# Altium footprint library AMPHENOL THD.PcbLib: 20 footprints (part 1 of 2)
Each footprint in its own frame and in the unit in brackets; x right, y up, seen from the top. Pads: shape width x height; smd on the part's side, far side on the other; paste and mask are expansions set on the pad; w line width, h text height; cw(c..) or ccw(c..) is an arc to the next point about the centre after c.
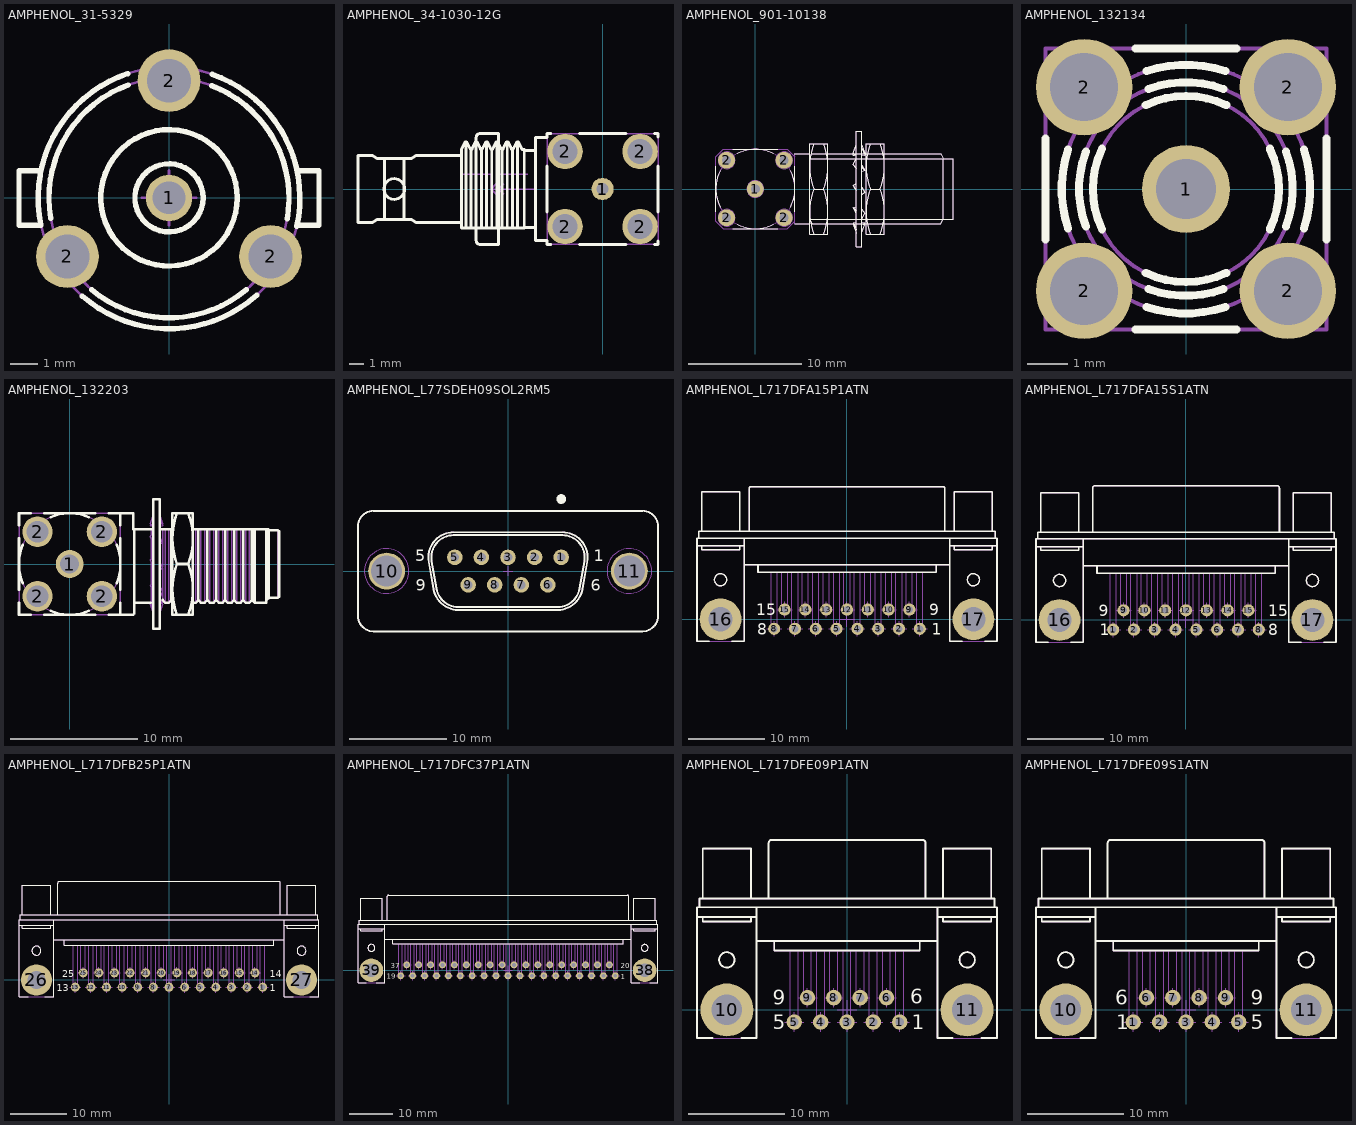
[diagram p0: the footprints below, top view; thin cyan lines are the x and y axes]

## AMPHENOL_31-5329 [mm] "50 Ohm BNC PCB Receptacle (Jack), Post Terminal, 3 Legs"
height 17.6
pads (4):
  round 1.7 hole 1.2: 1(0,0)
  round 2.3 hole 1.6: 2(-3.724,-2.15) 2(0,4.3) 2(3.724,-2.15)
Top Overlay:
  circle w0.2: c0,0 r1.25
  circle w0.2: c0,0 r2.5
  lines w0.2: -4.695,1 -5.5,1 -5.5,-1 -4.695,-1 cw(c0,0) -1.518,4.554 ; -4.335,-0.752 cw(c0,0) -1.496,4.138 ; -3.175,-3.6 ccw(c0,0) 3.214,-3.565 ; -2.839,-3.362 ccw(c0,0) 2.824,-3.374 ; 1.569,4.111 cw(c0,0) 4.332,-0.772 ; 1.578,4.533 cw(c0,0) 4.685,-1.047 ; 4.695,-1 5.5,-1 5.5,1 4.695,1
Mechanical 8:
  lines w0.1: -4.59,-2.65 -3.724,-2.15 ; -4.224,-1.284 -3.724,-2.15 ; -3.224,-3.016 -3.724,-2.15 ; -2.858,-1.65 -3.724,-2.15 ; -1,0 0,0 ; -1,4.3 0,4.3 ; 0,-1 0,0 ; 0,1 0,0 ; 0,3.3 0,4.3 ; 0,5.3 0,4.3 ; 1,0 0,0 ; 1,4.3 0,4.3 ; 2.858,-1.65 3.724,-2.15 ; 3.224,-3.016 3.724,-2.15 ; 4.224,-1.284 3.724,-2.15 ; 4.59,-2.65 3.724,-2.15
Mechanical 14:
  circle w0.1: c0,0 r2.5
  circle w0.1: c0,0 r4.4
  circle w0.1: c0,0 r4.8
  lines w0.1: -4.695,-1 -5.5,-1 -5.5,1 -4.695,1 ; 4.695,-1 5.5,-1 5.5,1 4.695,1
3D body "AMPHENOL_31-5329.stp": height 17, standoff -3.2, extent -5.5,-4.779 5.5,4.8

## AMPHENOL_34-1030-12G [mm] "75 Ohm HD-BNC Through Hole Right Angle PCB Jack"
height 8.5
pads (5):
  round 1.5 hole 0.8: 1(0,0)
  round 2.4 hole 1.7: 2(-2.54,-2.54) 2(-2.54,2.54) 2(2.54,-2.54) 2(2.54,2.54)
Top Overlay:
  circle w0.2: c-14.098,0 r0.7
  lines w0.2: -14.764,-2.055 -14.764,2.055 ; -13.431,-2.055 -13.431,2.055 ; -9.55,-2.275 -12.6,-2.275 -12.961,-2.055 -15.239,-2.055 -15.6,-2.275 -16.55,-2.275 -16.55,2.275 -15.6,2.275 -15.239,2.055 -12.961,2.055 -12.6,2.275 -9.55,2.275 ; -9.25,-2.64 -9.25,3.18 ; -8.9,-2.64 -8.9,2.68 ; -8.55,-2.64 -8.55,3.18 ; -8.2,-2.64 -8.2,2.68 ; -7.85,-2.64 -7.85,3.18 ; -7.5,-2.64 -7.5,2.68 ; -7.15,-2.64 -7.15,3.18 ; -6.8,-2.64 -6.8,2.68 ; -6.45,-2.64 -6.45,3.18 ; -6.1,-2.64 -6.1,2.68 ; -5.75,-2.64 -5.75,3.18 ; -5.3,-2.6 -4.55,-2.6 ; -5.3,2.6 -4.55,2.6 ; -3.75,-3.509 -3.75,-3.75 -3.509,-3.75 ; -3.75,-3.5 -4.55,-3.5 -4.55,3.5 -3.75,3.5 ; -3.75,-1.571 -3.75,1.571 ; -3.75,3.509 -3.75,3.75 -3.509,3.75 ; -1.571,-3.75 1.571,-3.75 ; -1.571,3.75 1.571,3.75 ; 3.509,-3.75 3.75,-3.75 3.75,-3.509 ; 3.509,3.75 3.75,3.75 3.75,3.509 ; 3.75,-1.571 3.75,1.571 ; -9.55,-2.64 -9.55,2.68 -9.3,3.18 -9.2,3.18 -8.95,2.68 -8.85,2.68 -8.6,3.18 -8.5,3.18 -8.25,2.68 -8.15,2.68 -7.9,3.18 -7.8,3.18 -7.55,2.68 -7.45,2.68 -7.2,3.18 -7.1,3.18 -6.85,2.68 -6.75,2.68 -6.5,3.18 -6.4,3.18 -6.15,2.68 -6.05,2.68 -5.8,3.18 -5.7,3.18 -5.45,2.68 -5.3,2.68 -5.3,-2.64 -9.55,-2.64 ; -8.55,-3.5 ccw(c-8.3,-3.5) -8.3,-3.75 -7.05,-3.75 -7.05,3.75 -8.3,3.75 ccw(c-8.3,3.5) -8.55,3.5 -8.55,-3.5
Mechanical 8:
  lines w0.1: -9.55,1 -7.55,1 -7.55,0 ; -7.196,-0.354 -7.55,0 ; -7.196,0.354 -7.55,0 ; -6.696,-0.354 -7.05,0 ; -6.696,0.354 -7.05,0 ; -5.05,1 -7.05,1 -7.05,0 ; -4.55,-0.5 -4.55,0 ; -4.55,0.5 -4.55,0 ; -3.04,-2.54 -2.54,-2.54 ; -3.04,2.54 -2.54,2.54 ; -2.54,-3.04 -2.54,-2.54 ; -2.54,-2.04 -2.54,-2.54 ; -2.54,2.04 -2.54,2.54 ; -2.54,3.04 -2.54,2.54 ; -2.04,-2.54 -2.54,-2.54 ; -2.04,2.54 -2.54,2.54 ; -0.5,0 0,0 ; 0,-0.5 0,0 ; 0,0.5 0,0 ; 0.5,0 0,0 ; 2.04,-2.54 2.54,-2.54 ; 2.04,2.54 2.54,2.54 ; 2.54,-3.04 2.54,-2.54 ; 2.54,-2.04 2.54,-2.54 ; 2.54,2.04 2.54,2.54 ; 2.54,3.04 2.54,2.54 ; 3.04,-2.54 2.54,-2.54 ; 3.04,2.54 2.54,2.54 ; -7.55,0 -7.05,0 ; -7.05,0 -4.55,0
  text "3.0" at -9.599,1.2 h1.2
  text "2.5" at -7.099,1.2 h1.2
Mechanical 14:
  circle w0.1: c-14.098,0 r0.7
  lines w0.1: -14.764,-2.055 -14.764,2.055 ; -13.431,-2.055 -13.431,2.055 ; -9.55,-2.275 -12.6,-2.275 -12.961,-2.055 -15.239,-2.055 -15.6,-2.275 -16.55,-2.275 -16.55,2.275 -15.6,2.275 -15.239,2.055 -12.961,2.055 -12.6,2.275 -9.55,2.275 ; -9.25,-2.64 -9.25,3.18 ; -8.9,-2.64 -8.9,2.68 ; -8.55,-2.64 -8.55,3.18 ; -8.2,-2.64 -8.2,2.68 ; -7.85,-2.64 -7.85,3.18 ; -7.5,-2.64 -7.5,2.68 ; -7.15,-2.64 -7.15,3.18 ; -6.8,-2.64 -6.8,2.68 ; -6.45,-2.64 -6.45,3.18 ; -6.1,-2.64 -6.1,2.68 ; -5.75,-2.64 -5.75,3.18 ; -5.3,-2.6 -4.55,-2.6 ; -5.3,2.6 -4.55,2.6 ; -3.75,-3.5 -4.55,-3.5 -4.55,3.5 -3.75,3.5 ; -9.55,-2.64 -9.55,2.68 -9.3,3.18 -9.2,3.18 -8.95,2.68 -8.85,2.68 -8.6,3.18 -8.5,3.18 -8.25,2.68 -8.15,2.68 -7.9,3.18 -7.8,3.18 -7.55,2.68 -7.45,2.68 -7.2,3.18 -7.1,3.18 -6.85,2.68 -6.75,2.68 -6.5,3.18 -6.4,3.18 -6.15,2.68 -6.05,2.68 -5.8,3.18 -5.7,3.18 -5.45,2.68 -5.3,2.68 -5.3,-2.64 -9.55,-2.64 ; -8.55,-3.5 ccw(c-8.3,-3.5) -8.3,-3.75 -7.05,-3.75 -7.05,3.75 -8.3,3.75 ccw(c-8.3,3.5) -8.55,3.5 -8.55,-3.5 ; -3.75,-3.75 -3.75,3.75 3.75,3.75 3.75,-3.75 -3.75,-3.75
3D body "AMPHENOL_34-1030-12G_Part1.stp": height 8, standoff -2.4, extent -16.55,-3.75 3.75,3.75
3D body "AMPHENOL_34-1030-12G_Part2.stp": height 8, standoff 0.5, extent -8.55,-3.75 -7.05,3.75

## AMPHENOL_901-10138 [mm] "50 Ohm Through Hole SMA Right Angle PCB Jack"
height 7
pads (5):
  round 1.5 hole 0.8: 1(0,0) 2(-2.54,-2.54) 2(-2.54,2.54) 2(2.54,-2.54) 2(2.54,2.54)
Top Overlay:
  lines w0.1: -3.5,-2.003 -3.5,2.003 ; -3.114,1.602 ccw(c0,0.005) -3.111,-1.6 ; -2.003,-3.5 2.003,-3.5 ; -2.003,3.5 2.003,3.5 ; -1.603,3.116 cw(c0,0.005) 1.603,3.116 ; -1.598,-3.109 ccw(c0,0.005) 1.598,-3.109 ; 3.111,-1.6 ccw(c0,0.005) 3.114,1.602 ; 3.495,-3.086 3.495,-3.09 4.795,-3.09 4.795,3.1 3.495,3.1 3.495,3.086 ; 3.5,-2.003 3.5,2.003 ; 5.157,-4 cw(c10.577,-2) 5.157,0 ; 5.157,4 ccw(c10.577,2) 5.157,0 ; 6.043,-4 ccw(c0.623,-2) 6.043,0 ; 6.043,4 cw(c0.623,2) 6.043,0 ; 8.713,-3.148 8.652,-3.181 ; 8.713,3.148 8.652,3.001 ; 8.733,-3.195 8.652,-3.181 ; 8.82,3.091 8.652,3.001 ; 8.9,-3.897 8.652,-3.181 ; 8.9,-3.595 8.652,-3.001 8.9,-2.957 ; 8.9,-2.206 ccw(c7.898,-2.351) 8.652,-1.676 ; 8.9,-1.92 8.652,-1.676 ; 8.9,-1.56 8.652,-1.676 ; 8.9,-0.139 8.652,0.29 8.9,0.488 ; 8.9,1.798 8.652,2.145 8.9,2.71 ; 8.9,2.957 8.652,3.001 ; 8.9,3.048 8.652,3.181 8.9,3.897 ; 9.4,-3.881 9.648,-3.181 9.4,-3.048 ; 9.4,-2.957 9.648,-3.001 ; 9.4,-2.701 9.648,-2.145 9.4,-1.798 ; 9.4,-0.49 9.648,-0.29 9.4,0.139 ; 9.4,1.56 9.648,1.676 ; 9.4,1.909 9.648,1.676 ; 9.4,2.107 9.648,1.676 ; 9.4,2.957 9.648,3.001 9.4,3.579 ; 9.4,3.881 9.648,3.181 ; 9.48,-3.091 9.648,-3.001 ; 9.565,3.195 9.648,3.181 ; 9.585,-3.147 9.648,-3.001 ; 9.585,3.147 9.648,3.181 ; 10.157,-4 cw(c15.577,-2) 10.157,0 ; 10.157,4 ccw(c15.577,2) 10.157,0 ; 11.043,-4 ccw(c5.623,-2) 11.043,0 ; 11.043,4 cw(c5.623,2) 11.043,0 ; 5.157,0 6.043,0 ; 10.157,0 11.043,0 ; 16.592,-2.66 16.392,-3.09 4.995,-3.09 4.795,-2.66 16.592,-2.66 ; 16.592,-2.66 17.495,-2.66 17.495,2.67 16.592,2.67 ; 16.592,-2.66 16.592,2.67 ; 16.592,2.67 16.392,3.1 4.995,3.1 4.795,2.67 16.592,2.67 ; 4.8,-4 6.4,-4 6.4,4 4.8,4 4.8,-4 ; 8.9,-5.1 9.4,-5.1 9.4,5.1 8.9,5.1 8.9,-5.1 ; 9.8,-4 11.4,-4 11.4,4 9.8,4 9.8,-4
Mechanical 8:
  circle w0.1: c2.54,-2.54 r0.75
  circle w0.1: c2.54,-2.54 r0.4
  circle w0.1: c-2.54,-2.54 r0.75
  circle w0.1: c-2.54,-2.54 r0.4
  circle w0.1: c0,0 r0.75
  circle w0.1: c0,0 r0.4
  circle w0.1: c2.54,2.54 r0.75
  circle w0.1: c2.54,2.54 r0.4
  circle w0.1: c-2.54,2.54 r0.75
  circle w0.1: c-2.54,2.54 r0.4
  lines w0.1: -3.04,-2.54 -2.54,-2.54 ; -3.04,2.54 -2.54,2.54 ; -2.54,-3.04 -2.54,-2.54 ; -2.54,-2.04 -2.54,-2.54 ; -2.54,2.04 -2.54,2.54 ; -2.54,3.04 -2.54,2.54 ; -2.04,-2.54 -2.54,-2.54 ; -2.04,2.54 -2.54,2.54 ; -0.5,0 0,0 ; 0,-0.5 0,0 ; 0,0.5 0,0 ; 0.5,0 0,0 ; 2.04,-2.54 2.54,-2.54 ; 2.04,2.54 2.54,2.54 ; 2.54,-3.04 2.54,-2.54 ; 2.54,-2.04 2.54,-2.54 ; 2.54,2.04 2.54,2.54 ; 2.54,3.04 2.54,2.54 ; 3.04,-2.54 2.54,-2.54 ; 3.04,2.54 2.54,2.54
Mechanical 14:
  circle w0.1: c0,0.005 r3.5
  lines w0.1: 3.495,-2.835 3.495,-3.09 4.795,-3.09 4.795,3.1 3.495,3.1 3.495,2.835 ; 5.157,-4 cw(c10.577,-2) 5.157,0 ; 5.157,4 ccw(c10.577,2) 5.157,0 ; 6.043,-4 ccw(c0.623,-2) 6.043,0 ; 6.043,4 cw(c0.623,2) 6.043,0 ; 8.713,-3.148 8.652,-3.181 ; 8.713,3.148 8.652,3.001 ; 8.733,-3.195 8.652,-3.181 ; 8.82,3.091 8.652,3.001 ; 8.9,-3.897 8.652,-3.181 ; 8.9,-3.595 8.652,-3.001 8.9,-2.957 ; 8.9,-2.206 ccw(c7.898,-2.351) 8.652,-1.676 ; 8.9,-1.92 8.652,-1.676 ; 8.9,-1.56 8.652,-1.676 ; 8.9,-0.139 8.652,0.29 8.9,0.488 ; 8.9,1.798 8.652,2.145 8.9,2.71 ; 8.9,2.957 8.652,3.001 ; 8.9,3.048 8.652,3.181 8.9,3.897 ; 9.4,-3.881 9.648,-3.181 9.4,-3.048 ; 9.4,-2.957 9.648,-3.001 ; 9.4,-2.701 9.648,-2.145 9.4,-1.798 ; 9.4,-0.49 9.648,-0.29 9.4,0.139 ; 9.4,1.56 9.648,1.676 ; 9.4,1.909 9.648,1.676 ; 9.4,2.107 9.648,1.676 ; 9.4,2.957 9.648,3.001 9.4,3.579 ; 9.4,3.881 9.648,3.181 ; 9.48,-3.091 9.648,-3.001 ; 9.565,3.195 9.648,3.181 ; 9.585,-3.147 9.648,-3.001 ; 9.585,3.147 9.648,3.181 ; 10.157,-4 cw(c15.577,-2) 10.157,0 ; 10.157,4 ccw(c15.577,2) 10.157,0 ; 11.043,-4 ccw(c5.623,-2) 11.043,0 ; 11.043,4 cw(c5.623,2) 11.043,0 ; 5.157,0 6.043,0 ; 10.157,0 11.043,0 ; 16.592,-2.66 16.392,-3.09 4.995,-3.09 4.795,-2.66 16.592,-2.66 ; 16.592,-2.66 17.495,-2.66 17.495,2.67 16.592,2.67 ; 16.592,-2.66 16.592,2.67 ; 16.592,2.67 16.392,3.1 4.995,3.1 4.795,2.67 16.592,2.67 ; -3.5,-2.828 -3.5,2.828 -2.828,3.5 2.828,3.5 3.5,2.828 3.5,-2.828 2.828,-3.5 -2.828,-3.5 -3.5,-2.828 ; 4.8,-4 6.4,-4 6.4,4 4.8,4 4.8,-4 ; 8.9,-5.1 9.4,-5.1 9.4,5.1 8.9,5.1 8.9,-5.1 ; 9.8,-4 11.4,-4 11.4,4 9.8,4 9.8,-4
3D body "AMPHENOL_901-10138_2.stp": height 8.12, standoff -1.12, extent 4.795,-4 6.395,4
3D body "AMPHENOL_901-10138.stp": height 7, standoff -3, extent -3.5,-3.5 17.495,3.5
3D body "AMPHENOL_901-10138_1.stp": height 8.6, standoff -1.6, extent 8.652,-5.1 9.648,5.1
3D body "AMPHENOL_901-10138_2.stp": height 8.12, standoff -1.12, extent 9.8,-4 11.4,4

## AMPHENOL_132134 [mm] "50 Ohm Through Hole SMA Straight PCB Jack"
height 9.53
pads (5):
  round 2.2 hole 1.5: 1(0,0)
  round 2.4 hole 1.7: 2(-2.54,-2.54) 2(-2.54,2.54) 2(2.54,-2.54) 2(2.54,2.54)
Top Overlay:
  lines w0.2: -3.5,-1.26 -3.5,1.26 ; -2.939,-0.991 cw(c-0.001,-0.001) -2.938,0.99 ; -2.495,-0.941 cw(c-0.003,0) -2.495,0.941 ; -2.094,-1.003 cw(c-0.002,0) -2.094,1.003 ; -1.26,-3.5 1.26,-3.5 ; -1.26,3.5 1.26,3.5 ; -1.004,-2.093 ccw(c-0.002,0) 1.004,-2.09 ; -1.004,2.093 cw(c-0.002,0) 1.004,2.09 ; -0.991,-2.94 ccw(c-0.001,-0.001) 0.991,-2.939 ; -0.99,2.937 cw(c-0.001,-0.001) 0.99,2.937 ; -0.941,-2.494 ccw(c-0.003,0) 0.941,-2.492 ; -0.941,2.493 cw(c-0.003,0) 0.941,2.491 ; 2.089,-1.005 ccw(c-0.002,0) 2.089,1.005 ; 2.489,-0.941 ccw(c-0.003,0) 2.489,0.941 ; 2.938,-0.99 ccw(c-0.001,-0.001) 2.937,0.99 ; 3.5,-1.26 3.5,1.26
Mechanical 8:
  lines w0.1: -3.04,-2.54 -2.54,-2.54 ; -3.04,2.54 -2.54,2.54 ; -2.54,-3.04 -2.54,-2.54 ; -2.54,-2.04 -2.54,-2.54 ; -2.54,2.04 -2.54,2.54 ; -2.54,3.04 -2.54,2.54 ; -2.04,-2.54 -2.54,-2.54 ; -2.04,2.54 -2.54,2.54 ; -0.5,0 0,0 ; 0,-0.5 0,0 ; 0,0.5 0,0 ; 0.5,0 0,0 ; 2.04,-2.54 2.54,-2.54 ; 2.04,2.54 2.54,2.54 ; 2.54,-3.04 2.54,-2.54 ; 2.54,-2.04 2.54,-2.54 ; 2.54,2.04 2.54,2.54 ; 2.54,3.04 2.54,2.54 ; 3.04,-2.54 2.54,-2.54 ; 3.04,2.54 2.54,2.54
Mechanical 14:
  circle w0.1: c-0.003,0 r2.664
  circle w0.1: c0,0 r0.635
  circle w0.1: c0,-0.011 r0.465
  circle w0.1: c-0.002,0 r2.32
  circle w0.1: c-0.001,-0.001 r3.101
  lines w0.1: -3.5,-3.5 -3.5,3.5 3.5,3.5 3.5,-3.5 -3.5,-3.5
3D body "AMPHENOL_132134.stp": height 9.53, standoff -3.94, extent -3.5,-3.5 3.5,3.5

## AMPHENOL_132203 [mm] "50 Ohm Through Hole SMA Right Angle PCB Jack"
height 10.44
pads (5):
  round 2.2 hole 1.5: 1(0,0)
  round 2.4 hole 1.7: 2(-2.54,-2.54) 2(-2.54,2.54) 2(2.54,-2.54) 2(2.54,2.54)
Top Overlay:
  lines w0.2: -4,-3.06 -4,-4 -3.06,-4 ; -4,-2.02 -4,2.02 ; -4,3.06 -4,4 -3.06,4 ; -3.702,-1.514 cw(c0,0) -3.702,1.514 ; -2.02,-4 2.02,-4 ; -2.02,4 2.02,4 ; -1.514,-3.702 ccw(c0,0) 1.514,-3.702 ; -1.514,3.702 cw(c0,0) 1.514,3.702 ; 3.06,-4 5,-4 5.1,-3.9 5.1,2.75 ; 3.06,4 5,4 5,2.75 6.6,2.75 ; 3.702,-1.514 ccw(c0,0) 3.702,1.514 ; 4,-4 4,-3.06 ; 4,-2.02 4,2.02 ; 4,3.06 4,4 ; 5.1,-3.05 6.373,-3.05 ; 7.1,2.75 8.1,2.75 ; 7.316,-2.825 7.517,-3.05 7.821,-3.05 8.022,-2.825 ; 8.022,2.75 8.022,-2.825 ; 8.1,-2.912 8.022,-2.825 ; 8.457,-4 cw(c13.877,-2) 8.457,0 ; 8.457,4 ccw(c13.877,2) 8.457,0 ; 9.343,-4 ccw(c3.923,-2) 9.343,0 ; 9.343,4 cw(c3.923,2) 9.343,0 ; 9.7,-3.05 9.938,-3.05 10.139,-2.825 ; 9.7,2.75 15.621,2.75 15.7,2.675 15.7,-2.675 15.507,-2.858 ; 10.139,2.75 10.139,-2.825 ; 10.844,2.75 10.844,-2.825 ; 11.55,2.75 11.55,-2.825 ; 12.255,2.75 12.255,-2.825 ; 12.961,2.75 12.961,-2.825 ; 13.666,2.75 13.666,-2.825 ; 14.372,2.75 14.372,-2.825 ; 14.573,2.75 14.573,-3.05 ; 15.507,2.75 15.507,-3.05 14.573,-3.05 ; 15.7,-2.665 16.4,-2.665 16.5,-2.565 16.5,2.565 16.4,2.665 15.7,2.665 ; 8.457,0 9.343,0 ; 10.139,-2.825 10.339,-3.05 10.643,-3.05 10.844,-2.825 ; 10.844,-2.825 11.045,-3.05 11.349,-3.05 11.55,-2.825 ; 11.55,-2.825 11.751,-3.05 12.055,-3.05 12.255,-2.825 ; 12.255,-2.825 12.456,-3.05 12.76,-3.05 12.961,-2.825 ; 12.961,-2.825 13.162,-3.05 13.466,-3.05 13.666,-2.825 ; 13.666,-2.825 13.867,-3.05 14.171,-3.05 14.372,-2.825 ; 14.372,-2.825 14.573,-3.05 ; 6.6,-5.1 7.1,-5.1 7.1,5.1 6.6,5.1 6.6,-5.1 ; 8.1,-4 9.7,-4 9.7,4 8.1,4 8.1,-4
Mechanical 8:
  lines w0.05: -3.04,-2.54 -2.54,-2.54 ; -3.04,2.54 -2.54,2.54 ; -2.54,-3.04 -2.54,-2.54 ; -2.54,-2.04 -2.54,-2.54 ; -2.54,2.04 -2.54,2.54 ; -2.54,3.04 -2.54,2.54 ; -2.04,-2.54 -2.54,-2.54 ; -2.04,2.54 -2.54,2.54 ; -0.5,0 0,0 ; 0,-0.5 0,0 ; 0,0.5 0,0 ; 0.5,0 0,0 ; 2.04,-2.54 2.54,-2.54 ; 2.04,2.54 2.54,2.54 ; 2.54,-3.04 2.54,-2.54 ; 2.54,-2.04 2.54,-2.54 ; 2.54,2.04 2.54,2.54 ; 2.54,3.04 2.54,2.54 ; 3.04,-2.54 2.54,-2.54 ; 3.04,2.54 2.54,2.54
Mechanical 14:
  circle w0.1: c0,0 r4
  lines w0.1: 4,-4 4,4 ; 5.1,-3.05 6.373,-3.05 ; 5.1,2.75 5.1,-3.9 5,-4 -4,-4 -4,4 5,4 5,2.75 6.6,2.75 ; 6.41,-2.991 6.41,-1.747 ; 6.41,-1.649 6.41,0.189 ; 6.41,0.336 6.41,2.064 ; 6.41,2.277 6.41,2.75 ; 6.413,-3.148 6.352,-3.181 ; 6.413,3.148 6.352,3.001 ; 6.433,-3.195 6.352,-3.181 ; 6.473,-2.98 6.6,-2.837 ; 6.52,3.091 6.352,3.001 ; 6.6,-3.897 6.352,-3.181 ; 6.6,-3.595 6.352,-3.001 6.6,-2.957 ; 6.6,-2.206 ccw(c5.598,-2.351) 6.352,-1.676 ; 6.6,-1.92 6.352,-1.676 ; 6.6,-1.56 6.352,-1.676 ; 6.6,-0.139 6.352,0.29 6.6,0.488 ; 6.6,1.798 6.352,2.145 6.6,2.71 ; 6.6,2.957 6.352,3.001 ; 6.6,3.048 6.352,3.181 6.6,3.897 ; 7.1,-3.881 7.348,-3.181 7.1,-3.048 ; 7.1,-2.701 7.348,-2.145 7.1,-1.798 ; 7.1,-0.49 7.348,-0.29 7.1,0.139 ; 7.1,1.56 7.348,1.676 ; 7.1,1.909 7.348,1.676 ; 7.1,2.107 7.348,1.676 ; 7.1,2.75 8.1,2.75 ; 7.1,2.957 7.348,3.001 7.1,3.579 ; 7.1,3.881 7.348,3.181 ; 7.113,-3.055 7.316,-2.825 ; 7.18,-3.091 7.348,-3.001 ; 7.186,-2.972 7.348,-3.001 ; 7.265,3.195 7.348,3.181 ; 7.285,-3.147 7.348,-3.001 ; 7.285,3.147 7.348,3.181 ; 7.316,-2.215 7.316,-2.825 ; 7.316,-2.101 7.316,-0.315 ; 7.316,-0.236 7.316,1.661 ; 7.316,1.72 7.316,2.75 ; 7.517,2.75 7.517,-3.05 ; 7.821,2.75 7.821,-3.05 ; 8.022,2.75 8.022,-2.825 ; 8.1,-2.912 8.022,-2.825 ; 8.457,-4 cw(c13.877,-2) 8.457,0 ; 8.457,4 ccw(c13.877,2) 8.457,0 ; 9.343,-4 ccw(c3.923,-2) 9.343,0 ; 9.343,4 cw(c3.923,2) 9.343,0 ; 9.7,-3.05 9.938,-3.05 ; 9.7,2.75 15.621,2.75 15.7,2.675 15.7,-2.675 15.507,-2.858 ; 9.938,2.75 9.938,-3.05 ; 10.139,2.75 10.139,-2.825 ; 10.339,2.75 10.339,-3.05 ; 10.644,2.75 10.643,-3.05 ; 10.844,2.75 10.844,-2.825 ; 11.045,2.75 11.045,-3.05 ; 11.349,2.75 11.349,-3.05 ; 11.55,2.75 11.55,-2.825 ; 11.751,2.75 11.751,-3.05 ; 12.055,2.75 12.055,-3.05 ; 12.255,2.75 12.255,-2.825 ; 12.456,2.75 12.456,-3.05 ; 12.76,2.75 12.76,-3.05 ; 12.961,2.75 12.961,-2.825 ; 13.162,2.75 13.162,-3.05 ; 13.466,2.75 13.466,-3.05 ; 13.666,2.75 13.666,-2.825 ; 13.867,2.75 13.867,-3.05 ; 14.171,2.75 14.171,-3.05 ; 14.372,2.75 14.372,-2.825 ; 14.573,2.75 14.573,-3.05 ; 15.507,2.75 15.507,-3.05 14.573,-3.05 ; 15.7,-2.665 16.4,-2.665 ; 15.7,2.665 16.4,2.665 ; 7.316,-2.825 7.517,-3.05 ; 7.517,-3.05 7.821,-3.05 ; 7.821,-3.05 8.022,-2.825 ; 8.457,0 9.343,0 ; 9.938,-3.05 10.139,-2.825 ; 10.139,-2.825 10.339,-3.05 ; 10.339,-3.05 10.643,-3.05 ; 10.643,-3.05 10.844,-2.825 ; 10.844,-2.825 11.045,-3.05 ; 11.045,-3.05 11.349,-3.05 ; 11.349,-3.05 11.55,-2.825 ; 11.55,-2.825 11.751,-3.05 ; 11.751,-3.05 12.055,-3.05 ; 12.055,-3.05 12.255,-2.825 ; 12.255,-2.825 12.456,-3.05 ; 12.456,-3.05 12.76,-3.05 ; 12.76,-3.05 12.961,-2.825 ; 12.961,-2.825 13.162,-3.05 ; 13.162,-3.05 13.466,-3.05 ; 13.466,-3.05 13.666,-2.825 ; 13.666,-2.825 13.867,-3.05 ; 13.867,-3.05 14.171,-3.05 ; 14.171,-3.05 14.372,-2.825 ; 14.372,-2.825 14.573,-3.05 ; 16.4,-2.665 16.5,-2.565 16.5,2.565 16.4,2.665 ; 16.4,-2.665 16.4,2.665 ; 6.6,-5.1 7.1,-5.1 7.1,5.1 6.6,5.1 6.6,-5.1 ; 8.1,-4 9.7,-4 9.7,4 8.1,4 8.1,-4
3D body "AMPHENOL_132203.stp": height 10.44, standoff -3.94, extent -4,-4 16.5,4
3D body "AMPHENOL_132203_1.stp": height 11.45, standoff 1.25, extent 6.352,-5.1 7.348,5.1
3D body "AMPHENOL_132203_2.stp": height 10.97, standoff 1.73, extent 8.1,-4 9.7,4

## AMPHENOL_L77SDEH09SOL2RM5 [mm] "Straight D-SUB 9 Female Contacts for PCB with Rear Insert (UNC4-40) and RM5 Standoff Boardlock"
height 13
pads (11):
  round 1.6 hole 0.9: 1(5.48,1.42) 2(2.74,1.42) 3(0,1.42) 4(-2.74,1.42) 5(-5.48,1.42) 6(4.11,-1.42) 7(1.37,-1.42) 8(-1.37,-1.42) 9(-4.11,-1.42)
  round 3.8 hole 3.2: 10(-12.495,0) 11(12.495,0)
Top Overlay:
  circle w0.5: c5.48,7.42 r0.25
  lines w0.2: -15.445,-4.61 ccw(c-13.845,-4.61) -13.845,-6.21 13.845,-6.21 ccw(c13.845,-4.61) 15.445,-4.61 15.445,4.61 ccw(c13.845,4.61) 13.845,6.21 -13.845,6.21 ccw(c-13.845,4.61) -15.445,4.61 -15.445,-4.61 ; -8.161,0.949 cw(c-5.6,1.4) -5.6,4 5.6,4 cw(c5.6,1.4) 8.16,0.949 7.667,-1.851 cw(c5.106,-1.4) 5.106,-4 -5.106,-4 cw(c-5.106,-1.4) -7.667,-1.851 -8.161,0.949 ; -7.865,1.001 cw(c-5.6,1.4) -5.6,3.7 5.6,3.7 cw(c5.6,1.4) 7.865,1.001 7.371,-1.799 cw(c5.106,-1.4) 5.106,-3.7 -5.106,-3.7 cw(c-5.106,-1.4) -7.372,-1.799 -7.865,1.001
  text "9" at -9.5,-2.025 h1.2
  text "6" at 8.525,-2.05 h1.2
  text "5" at -9.525,1 h1.2
  text "1" at 8.85,1 h1.2
Mechanical 8:
  lines w0.1: -12.995,0 -12.495,0 ; -12.495,-0.5 -12.495,0 ; -12.495,0.5 -12.495,0 ; -11.995,0 -12.495,0 ; -5.98,1.42 -5.48,1.42 ; -5.48,0.92 -5.48,1.42 ; -5.48,1.92 -5.48,1.42 ; -4.98,1.42 -5.48,1.42 ; -4.61,-1.42 -4.11,-1.42 ; -4.11,-1.92 -4.11,-1.42 ; -4.11,-0.92 -4.11,-1.42 ; -3.61,-1.42 -4.11,-1.42 ; -3.24,1.42 -2.74,1.42 ; -2.74,0.92 -2.74,1.42 ; -2.74,1.92 -2.74,1.42 ; -2.24,1.42 -2.74,1.42 ; -1.87,-1.42 -1.37,-1.42 ; -1.37,-1.92 -1.37,-1.42 ; -1.37,-0.92 -1.37,-1.42 ; -0.87,-1.42 -1.37,-1.42 ; -0.5,0 0,0 ; -0.5,1.42 0,1.42 ; 0,-0.5 0,0 ; 0,0.5 0,0 ; 0,0.92 0,1.42 ; 0,1.92 0,1.42 ; 0.5,0 0,0 ; 0.5,1.42 0,1.42 ; 0.87,-1.42 1.37,-1.42 ; 1.37,-1.92 1.37,-1.42 ; 1.37,-0.92 1.37,-1.42 ; 1.87,-1.42 1.37,-1.42 ; 2.24,1.42 2.74,1.42 ; 2.74,0.92 2.74,1.42 ; 2.74,1.92 2.74,1.42 ; 3.24,1.42 2.74,1.42 ; 3.61,-1.42 4.11,-1.42 ; 4.11,-1.92 4.11,-1.42 ; 4.11,-0.92 4.11,-1.42 ; 4.61,-1.42 4.11,-1.42 ; 4.98,1.42 5.48,1.42 ; 5.48,0.92 5.48,1.42 ; 5.48,1.92 5.48,1.42 ; 5.98,1.42 5.48,1.42 ; 11.995,0 12.495,0 ; 12.495,-0.5 12.495,0 ; 12.495,0.5 12.495,0 ; 12.995,0 12.495,0
Mechanical 14:
  circle w0.1: c-5.48,1.42 r0.4
  circle w0.1: c-2.74,1.42 r0.4
  circle w0.1: c-4.11,-1.42 r0.4
  circle w0.1: c-1.37,-1.42 r0.4
  circle w0.1: c0,1.42 r0.4
  circle w0.1: c2.74,1.42 r0.4
  circle w0.1: c5.48,1.42 r0.4
  circle w0.1: c4.11,-1.42 r0.4
  circle w0.1: c1.37,-1.42 r0.4
  circle w0.1: c-12.495,0 r2.3
  circle w0.1: c-12.495,0 r1.5
  circle w0.1: c12.495,0 r2.3
  circle w0.1: c12.495,0 r1.5
  lines w0.1: -15.445,-4.61 ccw(c-13.845,-4.61) -13.845,-6.21 13.845,-6.21 ccw(c13.845,-4.61) 15.445,-4.61 15.445,4.61 ccw(c13.845,4.61) 13.845,6.21 -13.845,6.21 ccw(c-13.845,4.61) -15.445,4.61 -15.445,-4.61 ; -8.161,0.949 cw(c-5.6,1.4) -5.6,4 5.6,4 cw(c5.6,1.4) 8.16,0.949 7.667,-1.851 cw(c5.106,-1.4) 5.106,-4 -5.106,-4 cw(c-5.106,-1.4) -7.667,-1.851 -8.161,0.949 ; -7.865,1.001 cw(c-5.6,1.4) -5.6,3.7 5.6,3.7 cw(c5.6,1.4) 7.865,1.001 7.371,-1.799 cw(c5.106,-1.4) 5.106,-3.7 -5.106,-3.7 cw(c-5.106,-1.4) -7.372,-1.799 -7.865,1.001
  text "1" at 8.85,1 h1.2
  text "5" at -9.525,1 h1.2
  text "6" at 8.525,-2.05 h1.2
  text "9" at -9.5,-2.025 h1.2
3D body "AMPHENOL_L77SDEH09SOL2RM5.stp": height 13, standoff -4.2, extent -15.445,-6.21 15.445,6.21

## AMPHENOL_L717DFA15P1ATN [mm] "Right Angled D-Sub 15 Male Contacts with Metal Bracket and Front Female Screwlock (UNC4-40)"
height 13.4
pads (17):
  round 1.6 hole 0.9: 1(9.59,-1.27) 2(6.85,-1.27) 3(4.11,-1.27) 4(1.37,-1.27) 5(-1.37,-1.27) 6(-4.11,-1.27) 7(-6.85,-1.27) 8(-9.59,-1.27) 9(8.22,1.27) 10(5.48,1.27) 11(2.74,1.27) 12(0,1.27) 13(-2.74,1.27) 14(-5.48,1.27) 15(-8.22,1.27)
  round 5.5 hole 3.2: 16(-16.65,0) 17(16.65,0)
Top Overlay:
  circle w0.2: c16.65,5.2 r0.8
  circle w0.2: c-16.65,5.2 r0.8
  lines w0.2: -19.5,10.67 -19.5,11.57 19.5,11.57 19.5,10.67 ; -19.15,9.67 -19.15,9.17 -14.15,9.17 -14.15,9.67 ; -19.15,11.57 -19.15,16.77 -14.15,16.77 -14.15,11.57 ; -18.15,-2.93 -19.75,-2.93 -19.75,10.67 19.75,10.67 19.75,-2.93 18.15,-2.93 ; -15.15,-2.93 -13.55,-2.93 -13.55,10.67 ; -13.689,9.67 -19.75,9.67 -13.55,9.67 ; -13.55,7.17 13.55,7.17 ; -12.901,11.57 -12.901,17.17 cw(c-12.601,17.17) -12.601,17.47 12.602,17.47 cw(c12.602,17.17) 12.902,17.17 12.902,11.57 ; -11.72,7.17 -11.72,6.17 11.72,6.17 11.72,7.17 ; 13.55,9.67 19.75,9.67 ; 13.55,10.67 13.55,-2.93 15.15,-2.93 ; 14.15,9.67 14.15,9.17 19.15,9.17 19.15,9.67 ; 14.15,11.57 14.15,16.77 19.15,16.77 19.15,11.57
  text "9" at 10.841,0.508 h1.5
  text "1" at 11.176,-2.032 h1.5
  text "8" at -11.811,-2.032 h1.5
  text "15" at -11.938,0.508 h1.5
Mechanical 8:
  lines w0.1: -17.65,0 -16.65,0 ; -16.65,-1 -16.65,0 ; -16.65,1 -16.65,0 ; -15.65,0 -16.65,0 ; -10.59,-1.27 -9.59,-1.27 ; -9.59,-2.27 -9.59,-1.27 ; -9.59,-0.27 -9.59,-1.27 ; -9.22,1.27 -8.22,1.27 ; -8.59,-1.27 -9.59,-1.27 ; -8.22,0.27 -8.22,1.27 ; -8.22,2.27 -8.22,1.27 ; -7.85,-1.27 -6.85,-1.27 ; -7.22,1.27 -8.22,1.27 ; -6.85,-2.27 -6.85,-1.27 ; -6.85,-0.27 -6.85,-1.27 ; -6.48,1.27 -5.48,1.27 ; -5.85,-1.27 -6.85,-1.27 ; -5.48,0.27 -5.48,1.27 ; -5.48,2.27 -5.48,1.27 ; -5.11,-1.27 -4.11,-1.27 ; -4.48,1.27 -5.48,1.27 ; -4.11,-2.27 -4.11,-1.27 ; -4.11,-0.27 -4.11,-1.27 ; -3.74,1.27 -2.74,1.27 ; -3.11,-1.27 -4.11,-1.27 ; -2.74,0.27 -2.74,1.27 ; -2.74,2.27 -2.74,1.27 ; -2.37,-1.27 -1.37,-1.27 ; -1.74,1.27 -2.74,1.27 ; -1.37,-2.27 -1.37,-1.27 ; -1.37,-0.27 -1.37,-1.27 ; -1,0 0,0 ; -1,1.27 0,1.27 ; -0.37,-1.27 -1.37,-1.27 ; 0,-1 0,0 ; 0,0.27 0,1.27 ; 0,1 0,0 ; 0,2.27 0,1.27 ; 0.37,-1.27 1.37,-1.27 ; 1,0 0,0 ; 1,1.27 0,1.27 ; 1.37,-2.27 1.37,-1.27 ; 1.37,-0.27 1.37,-1.27 ; 1.74,1.27 2.74,1.27 ; 2.37,-1.27 1.37,-1.27 ; 2.74,0.27 2.74,1.27 ; 2.74,2.27 2.74,1.27 ; 3.11,-1.27 4.11,-1.27 ; 3.74,1.27 2.74,1.27 ; 4.11,-2.27 4.11,-1.27 ; 4.11,-0.27 4.11,-1.27 ; 4.48,1.27 5.48,1.27 ; 5.11,-1.27 4.11,-1.27 ; 5.48,0.27 5.48,1.27 ; 5.48,2.27 5.48,1.27 ; 5.85,-1.27 6.85,-1.27 ; 6.48,1.27 5.48,1.27 ; 6.85,-2.27 6.85,-1.27 ; 6.85,-0.27 6.85,-1.27 ; 7.22,1.27 8.22,1.27 ; 7.85,-1.27 6.85,-1.27 ; 8.22,0.27 8.22,1.27 ; 8.22,2.27 8.22,1.27 ; 8.59,-1.27 9.59,-1.27 ; 9.22,1.27 8.22,1.27 ; 9.59,-2.27 9.59,-1.27 ; 9.59,-0.27 9.59,-1.27 ; 10.59,-1.27 9.59,-1.27 ; 15.65,0 16.65,0 ; 16.65,-1 16.65,0 ; 16.65,1 16.65,0 ; 17.65,0 16.65,0
Mechanical 14:
  circle w0.1: c16.65,0 r1.6
  circle w0.1: c16.65,5.2 r0.8
  circle w0.1: c-16.65,5.2 r0.8
  circle w0.1: c-16.65,0 r1.6
  lines w0.1: -19.5,10.67 -19.5,11.57 19.5,11.57 19.5,10.67 ; -19.15,9.67 -19.15,9.17 -14.15,9.17 -14.15,9.67 ; -19.15,11.57 -19.15,16.77 -14.15,16.77 -14.15,11.57 ; -13.689,9.67 -19.75,9.67 -13.55,9.67 ; -13.55,7.17 13.55,7.17 ; -13.55,10.67 -13.55,-2.93 -19.75,-2.93 -19.75,10.67 19.75,10.67 19.75,-2.93 13.55,-2.93 13.55,10.67 ; -12.901,11.57 -12.901,17.17 cw(c-12.601,17.17) -12.601,17.47 12.602,17.47 cw(c12.602,17.17) 12.902,17.17 12.902,11.57 ; -11.72,7.17 -11.72,6.17 11.72,6.17 11.72,7.17 ; -9.99,6.17 -9.99,-1.27 ccw(c-9.59,-1.27) -9.19,-1.27 -9.19,6.17 ; -8.62,6.17 -8.62,1.27 ccw(c-8.22,1.27) -7.82,1.27 -7.82,6.17 ; -7.25,6.17 -7.25,-1.27 ccw(c-6.85,-1.27) -6.45,-1.27 -6.45,6.17 ; -5.88,6.17 -5.88,1.27 ccw(c-5.48,1.27) -5.08,1.27 -5.08,6.17 ; -4.51,6.17 -4.51,-1.27 ccw(c-4.11,-1.27) -3.71,-1.27 -3.71,6.17 ; -3.14,6.17 -3.14,1.27 ccw(c-2.74,1.27) -2.34,1.27 -2.34,6.17 ; -1.77,6.17 -1.77,-1.27 ccw(c-1.37,-1.27) -0.97,-1.27 -0.97,6.17 ; -0.4,6.17 -0.4,1.27 ccw(c0,1.27) 0.4,1.27 0.4,6.17 ; 0.97,6.17 0.97,-1.27 ccw(c1.37,-1.27) 1.77,-1.27 1.77,6.17 ; 2.34,6.17 2.34,1.27 ccw(c2.74,1.27) 3.14,1.27 3.14,6.17 ; 3.71,6.17 3.71,-1.27 ccw(c4.11,-1.27) 4.51,-1.27 4.51,6.17 ; 5.08,6.17 5.08,1.27 ccw(c5.48,1.27) 5.88,1.27 5.88,6.17 ; 6.45,6.17 6.45,-1.27 ccw(c6.85,-1.27) 7.25,-1.27 7.25,6.17 ; 7.82,6.17 7.82,1.27 ccw(c8.22,1.27) 8.62,1.27 8.62,6.17 ; 9.19,6.17 9.19,-1.27 ccw(c9.59,-1.27) 9.99,-1.27 9.99,6.17 ; 13.55,9.67 19.75,9.67 ; 14.15,9.67 14.15,9.17 19.15,9.17 19.15,9.67 ; 14.15,11.57 14.15,16.77 19.15,16.77 19.15,11.57
3D body "AMPHENOL_L717DFA15P1ATN.stp": height 13.45, standoff -3.95, extent -19.75,-2.93 19.75,17.47

## AMPHENOL_L717DFA15S1ATN [mm] "Right Angled D-Sub 15 Female Contacts with Metal Bracket and Front Female Screwlock (UNC4-40)"
height 13.4
pads (17):
  round 1.6 hole 0.9: 1(-9.59,-1.27) 2(-6.85,-1.27) 3(-4.11,-1.27) 4(-1.37,-1.27) 5(1.37,-1.27) 6(4.11,-1.27) 7(6.85,-1.27) 8(9.59,-1.27) 9(-8.22,1.27) 10(-5.48,1.27) 11(-2.74,1.27) 12(0,1.27) 13(2.74,1.27) 14(5.48,1.27) 15(8.22,1.27)
  round 5.5 hole 3.2: 16(-16.65,0) 17(16.65,0)
Top Overlay:
  circle w0.2: c16.65,5.2 r0.8
  circle w0.2: c-16.65,5.2 r0.8
  lines w0.2: -19.5,10.67 -19.5,11.57 19.5,11.57 19.5,10.67 ; -19.15,9.67 -19.15,9.17 -14.15,9.17 -14.15,9.67 ; -19.15,11.57 -19.15,16.77 -14.15,16.77 -14.15,11.57 ; -18.15,-2.93 -19.75,-2.93 -19.75,10.67 19.75,10.67 19.75,-2.93 18.15,-2.93 ; -15.15,-2.93 -13.55,-2.93 -13.55,10.67 ; -13.689,9.67 -19.75,9.67 -13.55,9.67 ; -13.55,7.17 13.55,7.17 ; -12.292,11.57 -12.292,17.37 cw(c-11.992,17.37) -11.992,17.67 12.011,17.67 cw(c12.011,17.37) 12.311,17.37 12.311,11.57 ; -11.72,7.17 -11.72,6.17 11.72,6.17 11.72,7.17 ; 13.55,9.67 19.75,9.67 ; 13.55,10.67 13.55,-2.93 15.15,-2.93 ; 14.15,9.67 14.15,9.17 19.15,9.17 19.15,9.67 ; 14.15,11.57 14.15,16.77 19.15,16.77 19.15,11.57
  text "15" at 10.841,0.508 h1.5
  text "8" at 10.841,-2.032 h1.5
  text "1" at -11.349,-2.032 h1.5
  text "9" at -11.476,0.508 h1.5
Mechanical 8:
  lines w0.1: -17.65,0 -16.65,0 ; -16.65,-1 -16.65,0 ; -16.65,1 -16.65,0 ; -15.65,0 -16.65,0 ; -10.59,-1.27 -9.59,-1.27 ; -9.59,-2.27 -9.59,-1.27 ; -9.59,-0.27 -9.59,-1.27 ; -9.22,1.27 -8.22,1.27 ; -8.59,-1.27 -9.59,-1.27 ; -8.22,0.27 -8.22,1.27 ; -8.22,2.27 -8.22,1.27 ; -7.85,-1.27 -6.85,-1.27 ; -7.22,1.27 -8.22,1.27 ; -6.85,-2.27 -6.85,-1.27 ; -6.85,-0.27 -6.85,-1.27 ; -6.48,1.27 -5.48,1.27 ; -5.85,-1.27 -6.85,-1.27 ; -5.48,0.27 -5.48,1.27 ; -5.48,2.27 -5.48,1.27 ; -5.11,-1.27 -4.11,-1.27 ; -4.48,1.27 -5.48,1.27 ; -4.11,-2.27 -4.11,-1.27 ; -4.11,-0.27 -4.11,-1.27 ; -3.74,1.27 -2.74,1.27 ; -3.11,-1.27 -4.11,-1.27 ; -2.74,0.27 -2.74,1.27 ; -2.74,2.27 -2.74,1.27 ; -2.37,-1.27 -1.37,-1.27 ; -1.74,1.27 -2.74,1.27 ; -1.37,-2.27 -1.37,-1.27 ; -1.37,-0.27 -1.37,-1.27 ; -1,0 0,0 ; -1,1.27 0,1.27 ; -0.37,-1.27 -1.37,-1.27 ; 0,-1 0,0 ; 0,0.27 0,1.27 ; 0,1 0,0 ; 0,2.27 0,1.27 ; 0.37,-1.27 1.37,-1.27 ; 1,0 0,0 ; 1,1.27 0,1.27 ; 1.37,-2.27 1.37,-1.27 ; 1.37,-0.27 1.37,-1.27 ; 1.74,1.27 2.74,1.27 ; 2.37,-1.27 1.37,-1.27 ; 2.74,0.27 2.74,1.27 ; 2.74,2.27 2.74,1.27 ; 3.11,-1.27 4.11,-1.27 ; 3.74,1.27 2.74,1.27 ; 4.11,-2.27 4.11,-1.27 ; 4.11,-0.27 4.11,-1.27 ; 4.48,1.27 5.48,1.27 ; 5.11,-1.27 4.11,-1.27 ; 5.48,0.27 5.48,1.27 ; 5.48,2.27 5.48,1.27 ; 5.85,-1.27 6.85,-1.27 ; 6.48,1.27 5.48,1.27 ; 6.85,-2.27 6.85,-1.27 ; 6.85,-0.27 6.85,-1.27 ; 7.22,1.27 8.22,1.27 ; 7.85,-1.27 6.85,-1.27 ; 8.22,0.27 8.22,1.27 ; 8.22,2.27 8.22,1.27 ; 8.59,-1.27 9.59,-1.27 ; 9.22,1.27 8.22,1.27 ; 9.59,-2.27 9.59,-1.27 ; 9.59,-0.27 9.59,-1.27 ; 10.59,-1.27 9.59,-1.27 ; 15.65,0 16.65,0 ; 16.65,-1 16.65,0 ; 16.65,1 16.65,0 ; 17.65,0 16.65,0
Mechanical 14:
  circle w0.1: c16.65,0 r1.6
  circle w0.1: c16.65,5.2 r0.8
  circle w0.1: c-16.65,5.2 r0.8
  circle w0.1: c-16.65,0 r1.6
  lines w0.1: -19.5,10.67 -19.5,11.57 19.5,11.57 19.5,10.67 ; -19.15,9.67 -19.15,9.17 -14.15,9.17 -14.15,9.67 ; -19.15,11.57 -19.15,16.77 -14.15,16.77 -14.15,11.57 ; -13.689,9.67 -19.75,9.67 -13.55,9.67 ; -13.55,7.17 13.55,7.17 ; -13.55,10.67 -13.55,-2.93 -19.75,-2.93 -19.75,10.67 19.75,10.67 19.75,-2.93 13.55,-2.93 13.55,10.67 ; -12.292,11.57 -12.292,17.37 cw(c-11.992,17.37) -11.992,17.67 12.011,17.67 cw(c12.011,17.37) 12.311,17.37 12.311,11.57 ; -11.72,7.17 -11.72,6.17 11.72,6.17 11.72,7.17 ; -9.99,6.17 -9.99,-1.27 ccw(c-9.59,-1.27) -9.19,-1.27 -9.19,6.17 ; -8.62,6.17 -8.62,1.27 ccw(c-8.22,1.27) -7.82,1.27 -7.82,6.17 ; -7.25,6.17 -7.25,-1.27 ccw(c-6.85,-1.27) -6.45,-1.27 -6.45,6.17 ; -5.88,6.17 -5.88,1.27 ccw(c-5.48,1.27) -5.08,1.27 -5.08,6.17 ; -4.51,6.17 -4.51,-1.27 ccw(c-4.11,-1.27) -3.71,-1.27 -3.71,6.17 ; -3.14,6.17 -3.14,1.27 ccw(c-2.74,1.27) -2.34,1.27 -2.34,6.17 ; -1.77,6.17 -1.77,-1.27 ccw(c-1.37,-1.27) -0.97,-1.27 -0.97,6.17 ; -0.4,6.17 -0.4,1.27 ccw(c0,1.27) 0.4,1.27 0.4,6.17 ; 0.97,6.17 0.97,-1.27 ccw(c1.37,-1.27) 1.77,-1.27 1.77,6.17 ; 2.34,6.17 2.34,1.27 ccw(c2.74,1.27) 3.14,1.27 3.14,6.17 ; 3.71,6.17 3.71,-1.27 ccw(c4.11,-1.27) 4.51,-1.27 4.51,6.17 ; 5.08,6.17 5.08,1.27 ccw(c5.48,1.27) 5.88,1.27 5.88,6.17 ; 6.45,6.17 6.45,-1.27 ccw(c6.85,-1.27) 7.25,-1.27 7.25,6.17 ; 7.82,6.17 7.82,1.27 ccw(c8.22,1.27) 8.62,1.27 8.62,6.17 ; 9.19,6.17 9.19,-1.27 ccw(c9.59,-1.27) 9.99,-1.27 9.99,6.17 ; 13.55,9.67 19.75,9.67 ; 14.15,9.67 14.15,9.17 19.15,9.17 19.15,9.67 ; 14.15,11.57 14.15,16.77 19.15,16.77 19.15,11.57
3D body "AMPHENOL_L717DFA15S1ATN.stp": height 13.45, standoff -3.95, extent -19.75,-2.93 19.75,17.67

## AMPHENOL_L717DFB25P1ATN [mm] "Right Angled D-Sub 25 Male Contacts with Metal Bracket and Front Female Screwlock (UNC4-40)"
height 13.4
pads (27):
  round 1.6 hole 0.9: 1(16.62,-1.27) 2(13.85,-1.27) 3(11.08,-1.27) 4(8.31,-1.27) 5(5.54,-1.27) 6(2.77,-1.27) 7(0,-1.27) 8(-2.77,-1.27) 9(-5.54,-1.27) 10(-8.31,-1.27) 11(-11.08,-1.27) 12(-13.85,-1.27) 13(-16.62,-1.27) 14(15.25,1.27) 15(12.48,1.27) 16(9.71,1.27) 17(6.94,1.27) 18(4.17,1.27) 19(1.4,1.27) 20(-1.37,1.27) 21(-4.14,1.27) 22(-6.91,1.27) 23(-9.68,1.27) 24(-12.45,1.27) 25(-15.22,1.27)
  round 5.5 hole 3.2: 26(-23.5,0) 27(23.5,0)
Top Overlay:
  circle w0.2: c23.5,5.2 r0.8
  circle w0.2: c-23.5,5.2 r0.8
  lines w0.2: -26.35,10.67 -26.35,11.57 26.35,11.57 26.35,10.67 ; -26,9.67 -26,9.17 -21,9.17 -21,9.67 ; -26,11.57 -26,16.77 -21,16.77 -21,11.57 ; -25,-2.93 -26.6,-2.93 -26.6,10.67 26.6,10.67 26.6,-2.93 25,-2.93 ; -22,-2.93 -20.4,-2.93 -20.4,10.67 ; -20.539,9.67 -26.6,9.67 -20.4,9.67 ; -20.4,7.17 20.4,7.17 ; -19.751,11.57 -19.751,17.17 cw(c-19.451,17.17) -19.451,17.47 19.452,17.47 cw(c19.452,17.17) 19.752,17.17 19.752,11.57 ; -18.57,7.17 -18.57,6.17 18.57,6.17 18.57,7.17 ; 20.4,9.67 26.6,9.67 ; 20.4,10.67 20.4,-2.93 22,-2.93 ; 21,9.67 21,9.17 26,9.17 26,9.67 ; 21,11.57 21,16.77 26,16.77 26,11.57
  text "25" at -18.887,0.508 h1.2
  text "13" at -19.9,-2 h1.2
  text "14" at 17.871,0.508 h1.2
  text "1" at 17.871,-2.032 h1.2
Mechanical 8:
  lines w0.1: -24.5,0 -23.5,0 ; -23.5,-1 -23.5,0 ; -23.5,1 -23.5,0 ; -22.5,0 -23.5,0 ; -17.62,-1.27 -16.62,-1.27 ; -16.62,-2.27 -16.62,-1.27 ; -16.62,-0.27 -16.62,-1.27 ; -16.22,1.27 -15.22,1.27 ; -15.62,-1.27 -16.62,-1.27 ; -15.22,0.27 -15.22,1.27 ; -15.22,2.27 -15.22,1.27 ; -14.85,-1.27 -13.85,-1.27 ; -14.22,1.27 -15.22,1.27 ; -13.85,-2.27 -13.85,-1.27 ; -13.85,-0.27 -13.85,-1.27 ; -13.45,1.27 -12.45,1.27 ; -12.85,-1.27 -13.85,-1.27 ; -12.45,0.27 -12.45,1.27 ; -12.45,2.27 -12.45,1.27 ; -12.08,-1.27 -11.08,-1.27 ; -11.45,1.27 -12.45,1.27 ; -11.08,-2.27 -11.08,-1.27 ; -11.08,-0.27 -11.08,-1.27 ; -10.68,1.27 -9.68,1.27 ; -10.08,-1.27 -11.08,-1.27 ; -9.68,0.27 -9.68,1.27 ; -9.68,2.27 -9.68,1.27 ; -9.31,-1.27 -8.31,-1.27 ; -8.68,1.27 -9.68,1.27 ; -8.31,-2.27 -8.31,-1.27 ; -8.31,-0.27 -8.31,-1.27 ; -7.91,1.27 -6.91,1.27 ; -7.31,-1.27 -8.31,-1.27 ; -6.91,0.27 -6.91,1.27 ; -6.91,2.27 -6.91,1.27 ; -6.54,-1.27 -5.54,-1.27 ; -5.91,1.27 -6.91,1.27 ; -5.54,-2.27 -5.54,-1.27 ; -5.54,-0.27 -5.54,-1.27 ; -5.14,1.27 -4.14,1.27 ; -4.54,-1.27 -5.54,-1.27 ; -4.14,0.27 -4.14,1.27 ; -4.14,2.27 -4.14,1.27 ; -3.77,-1.27 -2.77,-1.27 ; -3.14,1.27 -4.14,1.27 ; -2.77,-2.27 -2.77,-1.27 ; -2.77,-0.27 -2.77,-1.27 ; -2.37,1.27 -1.37,1.27 ; -1.77,-1.27 -2.77,-1.27 ; -1.37,0.27 -1.37,1.27 ; -1.37,2.27 -1.37,1.27 ; -1,-1.27 0,-1.27 ; -0.37,1.27 -1.37,1.27 ; 0,-2.27 0,-1.27 ; 0,-0.27 0,-1.27 ; 0.4,1.27 1.4,1.27 ; 1,-1.27 0,-1.27 ; 1.4,0.27 1.4,1.27 ; 1.4,2.27 1.4,1.27 ; 1.77,-1.27 2.77,-1.27 ; 2.4,1.27 1.4,1.27 ; 2.77,-2.27 2.77,-1.27 ; 2.77,-0.27 2.77,-1.27 ; 3.17,1.27 4.17,1.27 ; 3.77,-1.27 2.77,-1.27 ; 4.17,0.27 4.17,1.27 ; 4.17,2.27 4.17,1.27 ; 4.54,-1.27 5.54,-1.27 ; 5.17,1.27 4.17,1.27 ; 5.54,-2.27 5.54,-1.27 ; 5.54,-0.27 5.54,-1.27 ; 5.94,1.27 6.94,1.27 ; 6.54,-1.27 5.54,-1.27 ; 6.94,0.27 6.94,1.27 ; 6.94,2.27 6.94,1.27 ; 7.31,-1.27 8.31,-1.27 ; 7.94,1.27 6.94,1.27 ; 8.31,-2.27 8.31,-1.27 ; 8.31,-0.27 8.31,-1.27 ; 8.71,1.27 9.71,1.27 ; 9.31,-1.27 8.31,-1.27 ; 9.71,0.27 9.71,1.27 ; 9.71,2.27 9.71,1.27 ; 10.08,-1.27 11.08,-1.27 ; 10.71,1.27 9.71,1.27 ; 11.08,-2.27 11.08,-1.27 ; 11.08,-0.27 11.08,-1.27 ; 11.48,1.27 12.48,1.27 ; 12.08,-1.27 11.08,-1.27 ; 12.48,0.27 12.48,1.27 ; 12.48,2.27 12.48,1.27 ; 12.85,-1.27 13.85,-1.27 ; 13.48,1.27 12.48,1.27 ; 13.85,-2.27 13.85,-1.27 ; 13.85,-0.27 13.85,-1.27 ; 14.25,1.27 15.25,1.27 ; 14.85,-1.27 13.85,-1.27 ; 15.25,0.27 15.25,1.27 ; 15.25,2.27 15.25,1.27 ; 15.62,-1.27 16.62,-1.27 ; 16.25,1.27 15.25,1.27 ; 16.62,-2.27 16.62,-1.27 ; 16.62,-0.27 16.62,-1.27 ; 17.62,-1.27 16.62,-1.27 ; 22.5,0 23.5,0 ; 23.5,-1 23.5,0 ; 23.5,1 23.5,0 ; 24.5,0 23.5,0 ; 0,0 -1,0 0,0 ; 0,0 1,0 0,0 ; 0,0 0,1 0,0 ; 0,0 0,-1 0,0
Mechanical 14:
  circle w0.1: c23.5,0 r1.6
  circle w0.1: c23.5,5.2 r0.8
  circle w0.1: c-23.5,5.2 r0.8
  circle w0.1: c-23.5,0 r1.6
  lines w0.1: -26.35,10.67 -26.35,11.57 26.35,11.57 26.35,10.67 ; -26,9.67 -26,9.17 -21,9.17 -21,9.67 ; -26,11.57 -26,16.77 -21,16.77 -21,11.57 ; -20.539,9.67 -26.6,9.67 -20.4,9.67 ; -20.4,7.17 20.4,7.17 ; -20.4,10.67 -20.4,-2.93 -26.6,-2.93 -26.6,10.67 26.6,10.67 26.6,-2.93 20.4,-2.93 20.4,10.67 ; -19.751,11.57 -19.751,17.17 cw(c-19.451,17.17) -19.451,17.47 19.452,17.47 cw(c19.452,17.17) 19.752,17.17 19.752,11.57 ; -18.57,7.17 -18.57,6.17 18.57,6.17 18.57,7.17 ; -17.02,6.17 -17.02,-1.27 ccw(c-16.62,-1.27) -16.22,-1.27 -16.22,6.17 ; -15.62,6.17 -15.62,1.27 ccw(c-15.22,1.27) -14.82,1.27 -14.82,6.17 ; -14.25,6.17 -14.25,-1.27 ccw(c-13.85,-1.27) -13.45,-1.27 -13.45,6.17 ; -12.85,6.17 -12.85,1.27 ccw(c-12.45,1.27) -12.05,1.27 -12.05,6.17 ; -11.48,6.17 -11.48,-1.27 ccw(c-11.08,-1.27) -10.68,-1.27 -10.68,6.17 ; -10.08,6.17 -10.08,1.27 ccw(c-9.68,1.27) -9.28,1.27 -9.28,6.17 ; -8.71,6.17 -8.71,-1.27 ccw(c-8.31,-1.27) -7.91,-1.27 -7.91,6.17 ; -7.31,6.17 -7.31,1.27 ccw(c-6.91,1.27) -6.51,1.27 -6.51,6.17 ; -5.94,6.17 -5.94,-1.27 ccw(c-5.54,-1.27) -5.14,-1.27 -5.14,6.17 ; -4.54,6.17 -4.54,1.27 ccw(c-4.14,1.27) -3.74,1.27 -3.74,6.17 ; -3.17,6.17 -3.17,-1.27 ccw(c-2.77,-1.27) -2.37,-1.27 -2.37,6.17 ; -1.77,6.17 -1.77,1.27 ccw(c-1.37,1.27) -0.97,1.27 -0.97,6.17 ; -0.4,6.17 -0.4,-1.27 ccw(c0,-1.27) 0.4,-1.27 0.4,6.17 ; 1,6.17 1,1.27 ccw(c1.4,1.27) 1.8,1.27 1.8,6.17 ; 2.37,6.17 2.37,-1.27 ccw(c2.77,-1.27) 3.17,-1.27 3.17,6.17 ; 3.77,6.17 3.77,1.27 ccw(c4.17,1.27) 4.57,1.27 4.57,6.17 ; 5.14,6.17 5.14,-1.27 ccw(c5.54,-1.27) 5.94,-1.27 5.94,6.17 ; 6.54,6.17 6.54,1.27 ccw(c6.94,1.27) 7.34,1.27 7.34,6.17 ; 7.91,6.17 7.91,-1.27 ccw(c8.31,-1.27) 8.71,-1.27 8.71,6.17 ; 9.31,6.17 9.31,1.27 ccw(c9.71,1.27) 10.11,1.27 10.11,6.17 ; 10.68,6.17 10.68,-1.27 ccw(c11.08,-1.27) 11.48,-1.27 11.48,6.17 ; 12.08,6.17 12.08,1.27 ccw(c12.48,1.27) 12.88,1.27 12.88,6.17 ; 13.45,6.17 13.45,-1.27 ccw(c13.85,-1.27) 14.25,-1.27 14.25,6.17 ; 14.85,6.17 14.85,1.27 ccw(c15.25,1.27) 15.65,1.27 15.65,6.17 ; 16.22,6.17 16.22,-1.27 ccw(c16.62,-1.27) 17.02,-1.27 17.02,6.17 ; 20.4,9.67 26.6,9.67 ; 21,9.67 21,9.17 26,9.17 26,9.67 ; 21,11.57 21,16.77 26,16.77 26,11.57
3D body "AMPHENOL_L717DFA25P1ATN.stp": height 13.45, standoff -3.95, extent -26.6,-2.93 26.6,17.47

## AMPHENOL_L717DFC37P1ATN [mm] "Right Angled D-Sub 37 Male Contacts with Metal Bracket and Front Female Screwlock (UNC4-40)"
height 13.4
pads (39):
  round 1.6 hole 0.9: 1(24.93,-1.27) 2(22.16,-1.27) 3(19.39,-1.27) 4(16.62,-1.27) 5(13.85,-1.27) 6(11.08,-1.27) 7(8.31,-1.27) 8(5.54,-1.27) 9(2.77,-1.27) 10(0,-1.27) 11(-2.77,-1.27) 12(-5.54,-1.27) 13(-8.31,-1.27) 14(-11.08,-1.27) 15(-13.85,-1.27) 16(-16.62,-1.27) 17(-19.39,-1.27) 18(-22.16,-1.27) 19(-24.93,-1.27) 20(23.56,1.27) 21(20.79,1.27) 22(18.02,1.27) 23(15.25,1.27) 24(12.48,1.27) 25(9.71,1.27) 26(6.94,1.27) 27(4.17,1.27) 28(1.4,1.27) 29(-1.37,1.27) 30(-4.14,1.27) 31(-6.91,1.27) 32(-9.68,1.27) 33(-12.45,1.27) 34(-15.22,1.27) 35(-17.99,1.27) 36(-20.76,1.27) 37(-23.53,1.27)
  round 5.5 hole 3.2: 38(31.75,0) 39(-31.75,0)
Top Overlay:
  circle w0.2: c-31.75,5.2 r0.8
  circle w0.2: c31.75,5.2 r0.8
  lines w0.2: -34.6,10.67 -34.6,11.57 34.6,11.57 34.6,10.67 ; -34.25,9.67 -34.25,9.17 -29.25,9.17 -29.25,9.67 ; -34.25,11.57 -34.25,16.77 -29.25,16.77 -29.25,11.57 ; -32.907,-2.93 -34.85,-2.93 -34.85,10.67 34.85,10.67 34.85,-2.93 32.907,-2.93 ; -30.593,-2.93 -28.65,-2.93 -28.65,10.67 ; -28.789,9.67 -34.85,9.67 -28.65,9.67 ; -28.65,7.17 28.65,7.17 ; -28.001,11.57 -28.001,17.17 cw(c-27.701,17.17) -27.701,17.47 27.702,17.47 cw(c27.702,17.17) 28.002,17.17 28.002,11.57 ; -26.82,7.17 -26.82,6.17 26.82,6.17 26.82,7.17 ; 28.65,9.67 34.85,9.67 ; 28.65,10.67 28.65,-2.93 30.593,-2.93 ; 29.25,9.67 29.25,9.17 34.25,9.17 34.25,9.67 ; 29.25,11.57 29.25,16.77 34.25,16.77 34.25,11.57
  text "20" at 26.181,0.508 h1.2
  text "1" at 26.181,-2.032 h1.2
  text "19" at -28.21,-2 h1.2
  text "37" at -27.197,0.508 h1.2
Mechanical 8:
  drawing of 164 lines, arcs and shapes, not listed
Mechanical 14:
  circle w0.1: c-31.75,0 r1.6
  circle w0.1: c-31.75,5.2 r0.8
  circle w0.1: c31.75,5.2 r0.8
  circle w0.1: c31.75,0 r1.6
  lines w0.1: -34.6,10.67 -34.6,11.57 34.6,11.57 34.6,10.67 ; -34.25,9.67 -34.25,9.17 -29.25,9.17 -29.25,9.67 ; -34.25,11.57 -34.25,16.77 -29.25,16.77 -29.25,11.57 ; -28.789,9.67 -34.85,9.67 -28.65,9.67 ; -28.65,7.17 28.65,7.17 ; -28.65,10.67 -28.65,-2.93 -34.85,-2.93 -34.85,10.67 34.85,10.67 34.85,-2.93 28.65,-2.93 28.65,10.67 ; -28.001,11.57 -28.001,17.17 cw(c-27.701,17.17) -27.701,17.47 27.702,17.47 cw(c27.702,17.17) 28.002,17.17 28.002,11.57 ; -26.82,7.17 -26.82,6.17 26.82,6.17 26.82,7.17 ; -25.33,6.17 -25.33,-1.27 ccw(c-24.93,-1.27) -24.53,-1.27 -24.53,6.17 ; -23.93,6.17 -23.93,1.27 ccw(c-23.53,1.27) -23.13,1.27 -23.13,6.17 ; -22.56,6.17 -22.56,-1.27 ccw(c-22.16,-1.27) -21.76,-1.27 -21.76,6.17 ; -21.16,6.17 -21.16,1.27 ccw(c-20.76,1.27) -20.36,1.27 -20.36,6.17 ; -19.79,6.17 -19.79,-1.27 ccw(c-19.39,-1.27) -18.99,-1.27 -18.99,6.17 ; -18.39,6.17 -18.39,1.27 ccw(c-17.99,1.27) -17.59,1.27 -17.59,6.17 ; -17.02,6.17 -17.02,-1.27 ccw(c-16.62,-1.27) -16.22,-1.27 -16.22,6.17 ; -15.62,6.17 -15.62,1.27 ccw(c-15.22,1.27) -14.82,1.27 -14.82,6.17 ; -14.25,6.17 -14.25,-1.27 ccw(c-13.85,-1.27) -13.45,-1.27 -13.45,6.17 ; -12.85,6.17 -12.85,1.27 ccw(c-12.45,1.27) -12.05,1.27 -12.05,6.17 ; -11.48,6.17 -11.48,-1.27 ccw(c-11.08,-1.27) -10.68,-1.27 -10.68,6.17 ; -10.08,6.17 -10.08,1.27 ccw(c-9.68,1.27) -9.28,1.27 -9.28,6.17 ; -8.71,6.17 -8.71,-1.27 ccw(c-8.31,-1.27) -7.91,-1.27 -7.91,6.17 ; -7.31,6.17 -7.31,1.27 ccw(c-6.91,1.27) -6.51,1.27 -6.51,6.17 ; -5.94,6.17 -5.94,-1.27 ccw(c-5.54,-1.27) -5.14,-1.27 -5.14,6.17 ; -4.54,6.17 -4.54,1.27 ccw(c-4.14,1.27) -3.74,1.27 -3.74,6.17 ; -3.17,6.17 -3.17,-1.27 ccw(c-2.77,-1.27) -2.37,-1.27 -2.37,6.17 ; -1.77,6.17 -1.77,1.27 ccw(c-1.37,1.27) -0.97,1.27 -0.97,6.17 ; -0.4,6.17 -0.4,-1.27 ccw(c0,-1.27) 0.4,-1.27 0.4,6.17 ; 1,6.17 1,1.27 ccw(c1.4,1.27) 1.8,1.27 1.8,6.17 ; 2.37,6.17 2.37,-1.27 ccw(c2.77,-1.27) 3.17,-1.27 3.17,6.17 ; 3.77,6.17 3.77,1.27 ccw(c4.17,1.27) 4.57,1.27 4.57,6.17 ; 5.14,6.17 5.14,-1.27 ccw(c5.54,-1.27) 5.94,-1.27 5.94,6.17 ; 6.54,6.17 6.54,1.27 ccw(c6.94,1.27) 7.34,1.27 7.34,6.17 ; 7.91,6.17 7.91,-1.27 ccw(c8.31,-1.27) 8.71,-1.27 8.71,6.17 ; 9.31,6.17 9.31,1.27 ccw(c9.71,1.27) 10.11,1.27 10.11,6.17 ; 10.68,6.17 10.68,-1.27 ccw(c11.08,-1.27) 11.48,-1.27 11.48,6.17 ; 12.08,6.17 12.08,1.27 ccw(c12.48,1.27) 12.88,1.27 12.88,6.17 ; 13.45,6.17 13.45,-1.27 ccw(c13.85,-1.27) 14.25,-1.27 14.25,6.17 ; 14.85,6.17 14.85,1.27 ccw(c15.25,1.27) 15.65,1.27 15.65,6.17 ; 16.22,6.17 16.22,-1.27 ccw(c16.62,-1.27) 17.02,-1.27 17.02,6.17 ; 17.62,6.17 17.62,1.27 ccw(c18.02,1.27) 18.42,1.27 18.42,6.17 ; 18.99,6.17 18.99,-1.27 ccw(c19.39,-1.27) 19.79,-1.27 19.79,6.17 ; 20.39,6.17 20.39,1.27 ccw(c20.79,1.27) 21.19,1.27 21.19,6.17 ; 21.76,6.17 21.76,-1.27 ccw(c22.16,-1.27) 22.56,-1.27 22.56,6.17 ; 23.16,6.17 23.16,1.27 ccw(c23.56,1.27) 23.96,1.27 23.96,6.17 ; 24.53,6.17 24.53,-1.27 ccw(c24.93,-1.27) 25.33,-1.27 25.33,6.17 ; 28.65,9.67 34.85,9.67 ; 29.25,9.67 29.25,9.17 34.25,9.17 34.25,9.67 ; 29.25,11.57 29.25,16.77 34.25,16.77 34.25,11.57
3D body "AMPHENOL_L717DFC37P1ATN.stp": height 13.45, standoff -3.95, extent -34.85,-2.93 34.85,17.47

## AMPHENOL_L717DFE09P1ATN [mm] "Right Angled D-Sub 9 Male Contacts with Metal Bracket and Front Female Screwlock (UNC4-40)"
height 13.4
pads (11):
  round 1.6 hole 0.9: 1(5.48,-1.27) 2(2.74,-1.27) 3(0,-1.27) 4(-2.74,-1.27) 5(-5.48,-1.27) 6(4.11,1.27) 7(1.37,1.27) 8(-1.37,1.27) 9(-4.11,1.27)
  round 5.5 hole 3.2: 10(-12.495,0) 11(12.495,0)
Top Overlay:
  circle w0.2: c-12.5,5.2 r0.8
  circle w0.2: c12.5,5.2 r0.8
  lines w0.2: -15.35,10.67 -15.35,11.57 15.35,11.57 15.35,10.67 ; -15,9.67 -15,9.17 -10,9.17 -10,9.67 ; -15,11.57 -15,16.77 -10,16.77 -10,11.57 ; -14,-2.93 -15.6,-2.93 -15.6,10.67 15.6,10.67 15.6,-2.93 14,-2.93 ; -11,-2.93 -9.4,-2.93 -9.4,10.67 ; -9.539,9.67 -15.6,9.67 -9.4,9.67 ; -9.4,7.17 9.4,7.17 ; -8.142,11.57 -8.142,17.37 cw(c-7.842,17.37) -7.842,17.67 7.861,17.67 cw(c7.861,17.37) 8.161,17.37 8.161,11.57 ; -7.57,7.17 -7.57,6.17 7.57,6.17 7.57,7.17 ; 9.4,9.67 15.6,9.67 ; 9.4,10.67 9.4,-2.93 11,-2.93 ; 10,9.67 10,9.17 15,9.17 15,9.67 ; 10,11.57 10,16.77 15,16.77 15,11.57
  text "6" at 6.604,0.635 h1.5
  text "5" at -7.747,-2.032 h1.5
  text "1" at 6.731,-2.032 h1.5
  text "9" at -7.747,0.508 h1.5
Mechanical 8:
  lines w0.1: -13.5,0 -12.5,0 ; -12.5,-1 -12.5,0 ; -12.5,1 -12.5,0 ; -11.5,0 -12.5,0 ; -6.48,-1.27 -5.48,-1.27 ; -5.48,-2.27 -5.48,-1.27 ; -5.48,-0.27 -5.48,-1.27 ; -5.11,1.27 -4.11,1.27 ; -4.48,-1.27 -5.48,-1.27 ; -4.11,0.27 -4.11,1.27 ; -4.11,2.27 -4.11,1.27 ; -3.74,-1.27 -2.74,-1.27 ; -3.11,1.27 -4.11,1.27 ; -2.74,-2.27 -2.74,-1.27 ; -2.74,-0.27 -2.74,-1.27 ; -2.37,1.27 -1.37,1.27 ; -1.74,-1.27 -2.74,-1.27 ; -1.37,0.27 -1.37,1.27 ; -1.37,2.27 -1.37,1.27 ; -1,-1.27 0,-1.27 ; -1,0 0,0 ; -0.37,1.27 -1.37,1.27 ; 0,-2.27 0,-1.27 ; 0,-1 0,0 ; 0,-0.27 0,-1.27 ; 0,1 0,0 ; 0.37,1.27 1.37,1.27 ; 1,-1.27 0,-1.27 ; 1,0 0,0 ; 1.37,0.27 1.37,1.27 ; 1.37,2.27 1.37,1.27 ; 1.74,-1.27 2.74,-1.27 ; 2.37,1.27 1.37,1.27 ; 2.74,-2.27 2.74,-1.27 ; 2.74,-0.27 2.74,-1.27 ; 3.11,1.27 4.11,1.27 ; 3.74,-1.27 2.74,-1.27 ; 4.11,0.27 4.11,1.27 ; 4.11,2.27 4.11,1.27 ; 4.48,-1.27 5.48,-1.27 ; 5.11,1.27 4.11,1.27 ; 5.48,-2.27 5.48,-1.27 ; 5.48,-0.27 5.48,-1.27 ; 6.48,-1.27 5.48,-1.27 ; 11.5,0 12.5,0 ; 12.5,-1 12.5,0 ; 12.5,1 12.5,0 ; 13.5,0 12.5,0
Mechanical 14:
  circle w0.1: c-12.5,0 r1.6
  circle w0.1: c-12.5,5.2 r0.8
  circle w0.1: c12.5,5.2 r0.8
  circle w0.1: c12.5,0 r1.6
  lines w0.1: -15.35,10.67 -15.35,11.57 15.35,11.57 15.35,10.67 ; -15,9.67 -15,9.17 -10,9.17 -10,9.67 ; -15,11.57 -15,16.77 -10,16.77 -10,11.57 ; -9.539,9.67 -15.6,9.67 -9.4,9.67 ; -9.4,7.17 9.4,7.17 ; -9.4,10.67 -9.4,-2.93 -15.6,-2.93 -15.6,10.67 15.6,10.67 15.6,-2.93 9.4,-2.93 9.4,10.67 ; -8.142,11.57 -8.142,17.37 cw(c-7.842,17.37) -7.842,17.67 7.861,17.67 cw(c7.861,17.37) 8.161,17.37 8.161,11.57 ; -7.57,7.17 -7.57,6.17 7.57,6.17 7.57,7.17 ; -5.88,6.17 -5.88,-1.27 ccw(c-5.48,-1.27) -5.08,-1.27 -5.08,6.17 ; -4.51,6.17 -4.51,1.27 ccw(c-4.11,1.27) -3.71,1.27 -3.71,6.17 ; -3.14,6.17 -3.14,-1.27 ccw(c-2.74,-1.27) -2.34,-1.27 -2.34,6.17 ; -1.77,6.17 -1.77,1.27 ccw(c-1.37,1.27) -0.97,1.27 -0.97,6.17 ; -0.4,6.17 -0.4,-1.27 ccw(c0,-1.27) 0.4,-1.27 0.4,6.17 ; 0.97,6.17 0.97,1.27 ccw(c1.37,1.27) 1.77,1.27 1.77,6.17 ; 2.34,6.17 2.34,-1.27 ccw(c2.74,-1.27) 3.14,-1.27 3.14,6.17 ; 3.71,6.17 3.71,1.27 ccw(c4.11,1.27) 4.51,1.27 4.51,6.17 ; 5.08,6.17 5.08,-1.27 ccw(c5.48,-1.27) 5.88,-1.27 5.88,6.17 ; 9.4,9.67 15.6,9.67 ; 10,9.67 10,9.17 15,9.17 15,9.67 ; 10,11.57 10,16.77 15,16.77 15,11.57
3D body "AMPHENOL_L717DFE09P1ATN.stp": height 13.45, standoff -3.95, extent -15.6,-2.93 15.6,17.67

## AMPHENOL_L717DFE09S1ATN [mm] "Right Angled D-Sub 9 Female Contacts with Metal Bracket and Front Female Screwlock (UNC4-40)"
height 13.4
pads (11):
  round 1.6 hole 0.9: 1(-5.48,-1.27) 2(-2.74,-1.27) 3(0,-1.27) 4(2.74,-1.27) 5(5.48,-1.27) 6(-4.11,1.27) 7(-1.37,1.27) 8(1.37,1.27) 9(4.11,1.27)
  round 5.5 hole 3.2: 10(-12.495,0) 11(12.495,0)
Top Overlay:
  circle w0.2: c-12.5,5.2 r0.8
  circle w0.2: c12.5,5.2 r0.8
  lines w0.2: -15.35,10.67 -15.35,11.57 15.35,11.57 15.35,10.67 ; -15,9.67 -15,9.17 -10,9.17 -10,9.67 ; -15,11.57 -15,16.77 -10,16.77 -10,11.57 ; -14,-2.93 -15.6,-2.93 -15.6,10.67 15.6,10.67 15.6,-2.93 14,-2.93 ; -11,-2.93 -9.4,-2.93 -9.4,10.67 ; -9.539,9.67 -15.6,9.67 -9.4,9.67 ; -9.4,7.17 9.4,7.17 ; -8.142,11.57 -8.142,17.37 cw(c-7.842,17.37) -7.842,17.67 7.861,17.67 cw(c7.861,17.37) 8.161,17.37 8.161,11.57 ; -7.57,7.17 -7.57,6.17 7.57,6.17 7.57,7.17 ; 9.4,9.67 15.6,9.67 ; 9.4,10.67 9.4,-2.93 11,-2.93 ; 10,9.67 10,9.17 15,9.17 15,9.67 ; 10,11.57 10,16.77 15,16.77 15,11.57
  text "9" at 6.731,0.508 h1.5
  text "1" at -7.239,-2.032 h1.5
  text "5" at 6.731,-2.032 h1.5
  text "6" at -7.366,0.508 h1.5
Mechanical 8:
  lines w0.1: -13.5,0 -12.5,0 ; -12.5,-1 -12.5,0 ; -12.5,1 -12.5,0 ; -11.5,0 -12.5,0 ; -6.48,-1.27 -5.48,-1.27 ; -5.48,-2.27 -5.48,-1.27 ; -5.48,-0.27 -5.48,-1.27 ; -5.11,1.27 -4.11,1.27 ; -4.48,-1.27 -5.48,-1.27 ; -4.11,0.27 -4.11,1.27 ; -4.11,2.27 -4.11,1.27 ; -3.74,-1.27 -2.74,-1.27 ; -3.11,1.27 -4.11,1.27 ; -2.74,-2.27 -2.74,-1.27 ; -2.74,-0.27 -2.74,-1.27 ; -2.37,1.27 -1.37,1.27 ; -1.74,-1.27 -2.74,-1.27 ; -1.37,0.27 -1.37,1.27 ; -1.37,2.27 -1.37,1.27 ; -1,-1.27 0,-1.27 ; -1,0 0,0 ; -0.37,1.27 -1.37,1.27 ; 0,-2.27 0,-1.27 ; 0,-1 0,0 ; 0,-0.27 0,-1.27 ; 0,1 0,0 ; 0.37,1.27 1.37,1.27 ; 1,-1.27 0,-1.27 ; 1,0 0,0 ; 1.37,0.27 1.37,1.27 ; 1.37,2.27 1.37,1.27 ; 1.74,-1.27 2.74,-1.27 ; 2.37,1.27 1.37,1.27 ; 2.74,-2.27 2.74,-1.27 ; 2.74,-0.27 2.74,-1.27 ; 3.11,1.27 4.11,1.27 ; 3.74,-1.27 2.74,-1.27 ; 4.11,0.27 4.11,1.27 ; 4.11,2.27 4.11,1.27 ; 4.48,-1.27 5.48,-1.27 ; 5.11,1.27 4.11,1.27 ; 5.48,-2.27 5.48,-1.27 ; 5.48,-0.27 5.48,-1.27 ; 6.48,-1.27 5.48,-1.27 ; 11.5,0 12.5,0 ; 12.5,-1 12.5,0 ; 12.5,1 12.5,0 ; 13.5,0 12.5,0
Mechanical 14:
  circle w0.1: c-12.5,0 r1.6
  circle w0.1: c-12.5,5.2 r0.8
  circle w0.1: c12.5,5.2 r0.8
  circle w0.1: c12.5,0 r1.6
  lines w0.1: -15.35,10.67 -15.35,11.57 15.35,11.57 15.35,10.67 ; -15,9.67 -15,9.17 -10,9.17 -10,9.67 ; -15,11.57 -15,16.77 -10,16.77 -10,11.57 ; -9.539,9.67 -15.6,9.67 -9.4,9.67 ; -9.4,7.17 9.4,7.17 ; -9.4,10.67 -9.4,-2.93 -15.6,-2.93 -15.6,10.67 15.6,10.67 15.6,-2.93 9.4,-2.93 9.4,10.67 ; -8.142,11.57 -8.142,17.37 cw(c-7.842,17.37) -7.842,17.67 7.861,17.67 cw(c7.861,17.37) 8.161,17.37 8.161,11.57 ; -7.57,7.17 -7.57,6.17 7.57,6.17 7.57,7.17 ; -5.88,6.17 -5.88,-1.27 ccw(c-5.48,-1.27) -5.08,-1.27 -5.08,6.17 ; -4.51,6.17 -4.51,1.27 ccw(c-4.11,1.27) -3.71,1.27 -3.71,6.17 ; -3.14,6.17 -3.14,-1.27 ccw(c-2.74,-1.27) -2.34,-1.27 -2.34,6.17 ; -1.77,6.17 -1.77,1.27 ccw(c-1.37,1.27) -0.97,1.27 -0.97,6.17 ; -0.4,6.17 -0.4,-1.27 ccw(c0,-1.27) 0.4,-1.27 0.4,6.17 ; 0.97,6.17 0.97,1.27 ccw(c1.37,1.27) 1.77,1.27 1.77,6.17 ; 2.34,6.17 2.34,-1.27 ccw(c2.74,-1.27) 3.14,-1.27 3.14,6.17 ; 3.71,6.17 3.71,1.27 ccw(c4.11,1.27) 4.51,1.27 4.51,6.17 ; 5.08,6.17 5.08,-1.27 ccw(c5.48,-1.27) 5.88,-1.27 5.88,6.17 ; 9.4,9.67 15.6,9.67 ; 10,9.67 10,9.17 15,9.17 15,9.67 ; 10,11.57 10,16.77 15,16.77 15,11.57
3D body "AMPHENOL_L717DFE09S1ATN.stp": height 13.45, standoff -3.95, extent -15.6,-2.93 15.6,17.67